# EAGLE library part TVP5150AM1 (library TVP5150AM1)
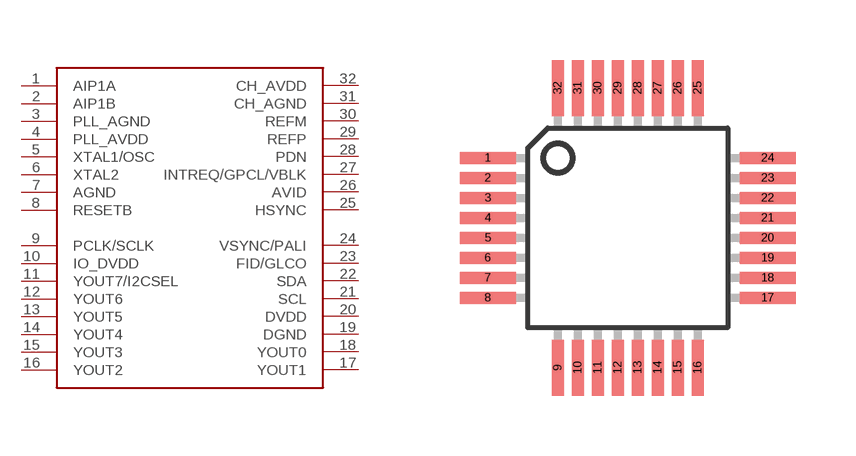
[diagram p0: symbol with the pads of TVP5150AM1; footprint TVP5150AM1]

Designator prefix -

## TVP5150AM1  [TVP5150AM1]
1  AIP1A
2  AIP1B
3  PLL_AGND
4  PLL_AVDD
5  XTAL1/OSC
6  XTAL2
7  AGND
8  RESETB
9  PCLK/SCLK
10  IO_DVDD
11  YOUT7/I2CSEL
12  YOUT6
13  YOUT5
14  YOUT4
15  YOUT3
16  YOUT2
17  YOUT1
18  YOUT0
19  DGND
20  DVDD
21  SCL
22  SDA
23  FID/GLCO
24  VSYNC/PALI
25  HSYNC
26  AVID
27  INTREQ/GPCL/VBLK
28  PDN
29  REFP
30  REFM
31  CH_AGND
32  CH_AVDD

## Footprint TVP5150AM1 (pad centres in mm)
smd 1.4 x 0.3: 1 -3.5,1.75; 2 -3.5,1.25; 3 -3.5,0.75; 4 -3.5,0.25; 5 -3.5,-0.25; 6 -3.5,-0.75; 7 -3.5,-1.25; 8 -3.5,-1.75; 17 3.5,-1.75; 18 3.5,-1.25; 19 3.5,-0.75; 20 3.5,-0.25; 21 3.5,0.25; 22 3.5,0.75; 23 3.5,1.25; 24 3.5,1.75
smd 0.3 x 1.4: 9 -1.75,-3.5; 10 -1.25,-3.5; 11 -0.75,-3.5; 12 -0.25,-3.5; 13 0.25,-3.5; 14 0.75,-3.5; 15 1.25,-3.5; 16 1.75,-3.5; 25 1.75,3.5; 26 1.25,3.5; 27 0.75,3.5; 28 0.25,3.5; 29 -0.25,3.5; 30 -0.75,3.5; 31 -1.25,3.5; 32 -1.75,3.5